# Altium footprint library footprints_library_legacy.pcblib: 29 footprints (part 1 of 2)
Each footprint in its own frame and in the unit in brackets; x right, y up, seen from the top. Pads: shape width x height; smd on the part's side, far side on the other; paste and mask are expansions set on the pad; w line width, h text height; cw(c..) or ccw(c..) is an arc to the next point about the centre after c.
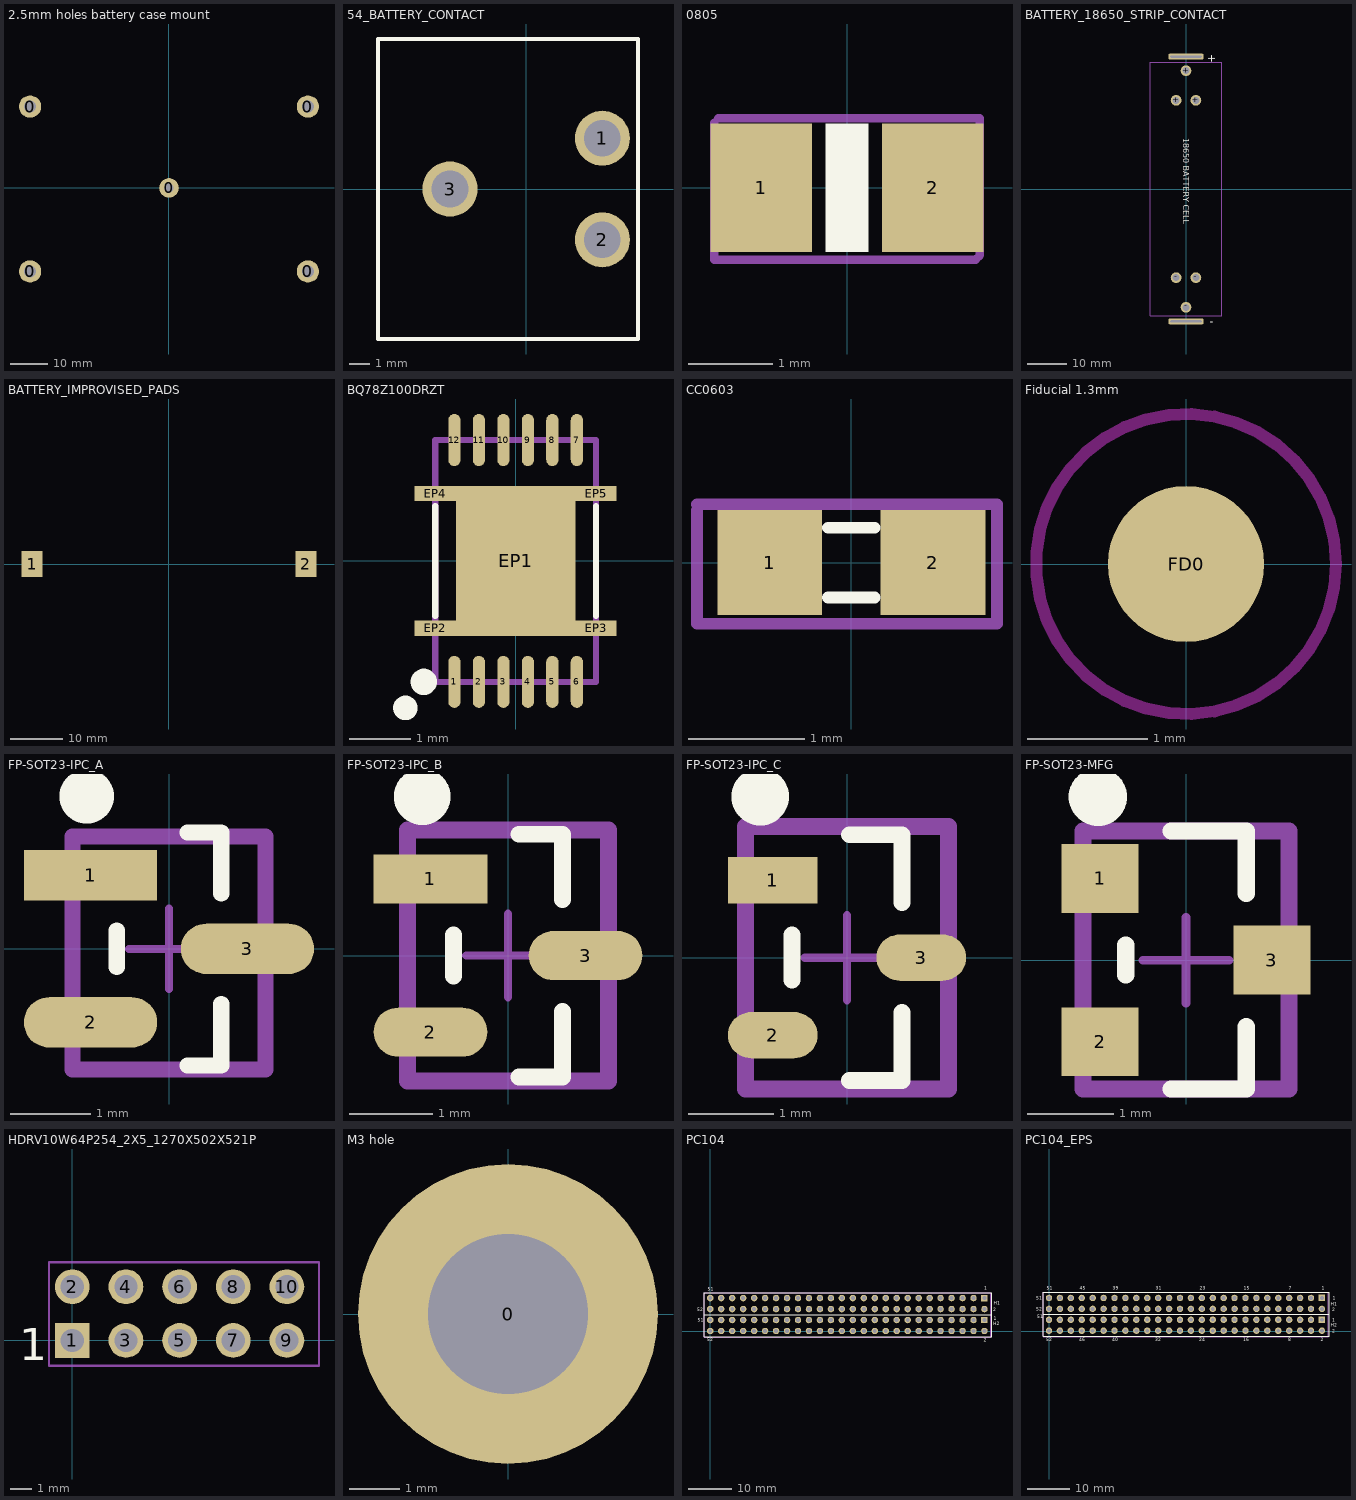
[diagram p0: the footprints below, top view; thin cyan lines are the x and y axes]

## 2.5mm holes battery case mount [mm]
pads (5):
  round 6 hole 3.2: 0(-37.5,-22.55) 0(-37.5,21.95) 0(37.5,-22.55) 0(37.5,21.95)
  round 5.3 hole 2.5: 0(0,0)

## 54_BATTERY_CONTACT [mm]
pads (3):
  round 2.75 hole 1.83: 1(3.81,2.54) 2(3.81,-2.54) 3(-3.81,0)
Top Overlay:
  lines w0.2: -7.41,-7.5 5.59,-7.5 5.59,7.5 -7.41,7.5 -7.41,-7.5
3D body "KEYELCO_54.STEP": height 2.55, standoff -18.66, extent -7.371,-9.384 5.636,9.503

## 0805 [mil]
pads (2):
  rect 47.24x60 smd: 1(-40,0) 2(40,0)
Top Overlay:
  rectangle: -10,-30 10,30
Top ASM Top/ASM Bottom:
  lines w3.94: -62.01,30.51 -62.01,-33.46 60.04,-33.46 62.01,-31.5 62.01,32.48 -60.04,32.48
  text ".Designator" at -58.7,-2.44 h19.68
3D body "RES0805(2012M).STEP": height 31.1, standoff 0, extent -50,-24.49 48.75,24.51

## BATTERY_18650_STRIP_CONTACT [mm]
pads (8):
  round 2.75 hole 1.83: +(-2.54,22.755) +(0,30.375) +(2.54,22.755) -(-2.54,-22.705) -(0,-30.325) -(2.54,-22.705)
  rrect50% 9x1.524 hole 0.5 slot 8 at 0 deg: +(0,34) -(0,-33.95)
Top Overlay:
  text "18650 BATTERY CELL" at -0.75,13 h1.5
  text "+" at 5.7,34.65 h2
  text "-" at 6.075,-34.95 h2
Top ASM Top/ASM Bottom:
  lines w0.254: -9.2,-32.45 9.2,-32.45 9.2,32.5 -9.2,32.5 -9.2,-32.45
  text "-" at 6.075,-34.95 h2
  text "+" at 5.7,34.65 h2
  text "'.Designator'" at 5.075,30.175 h2
3D body "KEYELCO_54.STEP": height 18.16, standoff -3.05, extent -9.383,20.929 9.504,33.936
3D body "Samsung INR18650-29R.SLDPRT": height 19.89, standoff 1.51, extent -9.19,-32.45 9.19,32.5
3D body "KEYELCO_54.STEP": height 18.16, standoff -3.05, extent -9.504,-33.886 9.383,-20.879

## BATTERY_IMPROVISED_PADS [mm] "Battery"
pads (2):
  rect 4x5 smd: 1(-26.32,0) 2(26.32,0)

## BQ78Z100DRZT [mm]
pads (17):
  oval 0.2x0.85 smd mask+0.07: 1(-1,-1.975) 2(-0.6,-1.975) 3(-0.2,-1.975) 4(0.2,-1.975) 5(0.6,-1.975) 6(1,-1.975) 7(1,1.975) 8(0.6,1.975) 9(0.2,1.975) 10(-0.2,1.975) 11(-0.6,1.975) 12(-1,1.975)
  rect 1.95x2.45 smd mask+0: EP1(0,0)
  rect 0.675x0.25 smd mask+0: EP2(-1.313,-1.1) EP3(1.313,-1.1) EP4(-1.313,1.1) EP5(1.313,1.1)
Top Overlay:
  circle w0.25: c-1.5,-1.975 r0.09
  lines w0.1: -1.313,-0.9 -1.313,0.9 ; 1.313,-0.9 1.313,0.9
  lines w0.2: -1.8,-2.5 ccw(c-1.8,-2.4) -1.8,-2.3 ccw(c-1.8,-2.4) -1.8,-2.5
Top ASM Top/ASM Bottom:
  lines w0.1: -1.313,-1.975 -1.313,1.975 1.313,1.975 1.313,-1.975 -1.313,-1.975
  text "'.Designator'" at 0.3,-1.4 h1
3D body "BQ78Z100DRZT.stp": height 1, standoff 0, extent -1.25,-2 1.25,2

## CC0603 [mm] "TDK mlccspec_commercial_general_midvoltage_en.pdf"
height 0.8
pads (2):
  rect 0.9x0.9 smd: 1(-0.7,0) 2(0.7,0)
Top Overlay:
  lines w0.1: -0.2,-0.3 0.2,-0.3 ; -0.2,0.3 0.2,0.3
Top ASM Top/ASM Bottom:
  lines w0.1: -1.325,0.45 -1.325,-0.525 1.25,-0.525 1.25,0.5 -1.325,0.5
  text ".Designator" at -1.075,-0.175 h0.89
3D body "CC0603(1608M).STEP": height 0.78, standoff -0.01, extent -1,-0.394 1,0.394

## Fiducial 1.3mm [mm]
pads (1):
  round 1.3 smd mask+0.6: FD0(0,0)
Top Layer keep-out:
  circle w0.1: c0,0 r1.25

## FP-SOT23-IPC_A [mm]
pads (3):
  rect 1.659x0.627 smd paste+0 mask+0: 1(-0.977,0.915)
  rrect100% 1.659x0.627 smd paste+0 mask+0: 2(-0.977,-0.915) 3(0.977,0)
Top Overlay:
  circle w0.5: c-1.025,1.9 r0.09
  lines w0.2: -0.65,-0.227 -0.65,0.227 ; 0.228,-1.45 0.65,-1.45 0.65,-0.688 ; 0.228,1.45 0.65,1.45 0.65,0.688
Top ASM Top/ASM Bottom:
  lines w0.2: -1.2,-1.5 -1.2,1.4 1.2,1.4 1.2,-1.5 -1.2,-1.5
  text ".Designator" at -1.941,0.588 h0.89
Mechanical 16:
  lines w0.1: -0.5,0 0.5,0 ; 0,-0.5 0,0.5
3D body "Diode_Diodes_Inc_BAS16-7-F_eec.STEP": height 1.1, standoff 0, extent -1.2,-1.46 1.2,1.46

## FP-SOT23-IPC_B [mm]
pads (3):
  rect 1.359x0.587 smd paste+0 mask+0: 1(-0.927,0.915)
  rrect100% 1.359x0.587 smd paste+0 mask+0: 2(-0.927,-0.915) 3(0.927,0)
Top Overlay:
  circle w0.5: c-1.025,1.9 r0.09
  lines w0.2: -0.65,-0.247 -0.65,0.247 ; 0.128,-1.45 0.65,-1.45 0.65,-0.668 ; 0.128,1.45 0.65,1.45 0.65,0.668
Top ASM Top/ASM Bottom:
  lines w0.2: -1.2,-1.5 1.2,-1.5 1.2,1.5 -1.2,1.5 -1.2,-1.5
  text ".Designator" at -1.5,0.4 h0.89
Mechanical 16:
  lines w0.1: -0.5,0 0.5,0 ; 0,-0.5 0,0.5
3D body "Diode_Diodes_Inc_BAS16-7-F_eec.STEP": height 1.1, standoff 0, extent -1.2,-1.46 1.2,1.46

## FP-SOT23-IPC_C [mm]
pads (3):
  rect 1.059x0.547 smd paste+0 mask+0: 1(-0.877,0.915)
  rrect100% 1.059x0.547 smd paste+0 mask+0: 2(-0.877,-0.915) 3(0.877,0)
Top Overlay:
  circle w0.5: c-1.025,1.9 r0.09
  lines w0.2: -0.65,-0.267 -0.65,0.267 ; 0.028,-1.45 0.65,-1.45 0.65,-0.648 ; 0.028,1.45 0.65,1.45 0.65,0.648
Top ASM Top/ASM Bottom:
  lines w0.2: -1.2,-1.55 -1.2,1.55 1.2,1.55 1.2,-1.55 -1.2,-1.55
  text ".Designator" at -1.141,0.388 h0.89
Mechanical 16:
  lines w0.1: -0.5,0 0.5,0 ; 0,-0.5 0,0.5
3D body "Diode_Diodes_Inc_BAS16-7-F_eec.STEP": height 1.1, standoff 0, extent -1.2,-1.46 1.2,1.46

## FP-SOT23-MFG [mm]
pads (3):
  rect 0.9x0.8 smd paste+0 mask+0: 1(-1,0.95) 2(-1,-0.95) 3(1,0)
Top Overlay:
  circle w0.5: c-1.025,1.9 r0.09
  lines w0.2: -0.7,-0.175 -0.7,0.175 ; -0.175,-1.5 0.7,-1.5 0.7,-0.775 ; -0.175,1.5 0.7,1.5 0.7,0.775
Top ASM Top/ASM Bottom:
  lines w0.2: -1.2,-1.5 1.2,-1.5 1.2,1.5 -1.2,1.5 -1.2,-1.5
  text ".Designator" at -1.041,0.388 h0.89
Mechanical 16:
  lines w0.1: -0.5,0 0.5,0 ; 0,-0.5 0,0.5
3D body "Diode_Diodes_Inc_BAS16-7-F_eec.STEP": height 1.1, standoff 0, extent -1.2,-1.46 1.2,1.46

## HDRV10W64P254_2X5_1270X502X521P [mm]
pads (10):
  rect 1.65x1.65 hole 1.1: 1(0,0)
  round 1.65 hole 1.1: 2(0,2.54) 3(2.54,0) 4(2.54,2.54) 5(5.08,0) 6(5.08,2.54) 7(7.62,0) 8(7.62,2.54) 9(10.16,0) 10(10.16,2.54)
Top Overlay:
  text "1" at -2.525,-0.95 h1.52
Top ASM Top/ASM Bottom:
  lines w0.1: -1.1,-1.2 11.68,-1.2 11.68,3.7 -1.1,3.7 -1.1,-1.2
  text ".Designator" at 1.359,-0.512 h0.89
3D body "67996-x10_asm.stp": height 8.28, standoff -2.51, extent -1.1,-1.165 11.6,3.665

## M3 hole [mm]
pads (1):
  round 6 hole 3.2: 0(0,0)

## PC104 [mm] "Connector; Header; 26x4 Position"
height 3.1
pads (104):
  rect 1.5x1.5 hole 0.9: H1-1(63.5,7.7) H2-1(63.5,2.625)
  round 1.5 hole 0.9: H1-2(63.5,5.16) H1-3(60.96,7.7) H1-4(60.96,5.16) H1-5(58.42,7.7) H1-6(58.42,5.16) H1-7(55.88,7.7) H1-8(55.88,5.16) H1-9(53.34,7.7) H1-10(53.34,5.16) H1-11(50.8,7.7) H1-12(50.8,5.16) H1-13(48.26,7.7) H1-14(48.26,5.16) H1-15(45.72,7.7) H1-16(45.72,5.16) H1-17(43.155,7.7) H1-18(43.18,5.16) H1-19(40.64,7.7) H1-20(40.64,5.16) H1-21(38.1,7.7) H1-22(38.1,5.16) H1-23(35.56,7.7) H1-24(35.56,5.16) H1-25(33.02,7.7) H1-26(33.02,5.16) H1-27(30.48,7.7) H1-28(30.48,5.16) H1-29(27.94,7.7) H1-30(27.94,5.16) H1-31(25.4,7.7) H1-32(25.4,5.16) H1-33(22.86,7.7) H1-34(22.86,5.16) H1-35(20.32,7.7) H1-36(20.32,5.16) H1-37(17.78,7.7) H1-38(17.78,5.16) H1-39(15.24,7.7) H1-40(15.24,5.16) H1-41(12.7,7.7) H1-42(12.7,5.16) H1-43(10.16,7.7) H1-44(10.16,5.16) H1-45(7.62,7.7) H1-46(7.62,5.16) H1-47(5.08,7.7) H1-48(5.08,5.16) H1-49(2.54,7.7) H1-50(2.54,5.16) H1-51(0,7.7) H1-52(0,5.16) H2-2(63.5,0.08) H2-3(60.96,2.62) H2-4(60.96,0.08) H2-5(58.42,2.62) H2-6(58.42,0.08) H2-7(55.88,2.62) H2-8(55.88,0.08) H2-9(53.34,2.625) H2-10(53.34,0.08) H2-11(50.8,2.625) H2-12(50.8,0.08) H2-13(48.26,2.62) H2-14(48.26,0.08) H2-15(45.72,2.62) H2-16(45.72,0.08) H2-17(43.155,2.62) H2-18(43.18,0.08) H2-19(40.64,2.62) H2-20(40.64,0.08) H2-21(38.1,2.62) H2-22(38.1,0.08) H2-23(35.56,2.62) H2-24(35.56,0.08) H2-25(33.02,2.62) H2-26(33.02,0.08) H2-27(30.48,2.62) H2-28(30.48,0.08) H2-29(27.94,2.62) H2-30(27.94,0.08) H2-31(25.4,2.62) H2-32(25.4,0.08) H2-33(22.86,2.62) H2-34(22.86,0.08) H2-35(20.32,2.62) H2-36(20.32,0.08) H2-37(17.78,2.62) H2-38(17.78,0.08) H2-39(15.24,2.62) H2-40(15.24,0.08) H2-41(12.7,2.62) H2-42(12.7,0.08) H2-43(10.16,2.62) H2-44(10.16,0.08) H2-45(7.62,2.62) H2-46(7.62,0.08) H2-47(5.08,2.62) H2-48(5.08,0.08) H2-49(2.54,2.62) H2-50(2.54,0.08) H2-51(0,2.62) H2-52(0,0.08)
Top Overlay:
  lines w0.2: -1.375,-1.225 -1.375,3.895 65.175,3.895 65.175,-1.225 -1.375,-1.225 ; -1.375,3.89 65.175,3.89 65.175,8.97 -1.375,8.97 -1.375,3.89
  text "H1" at 65.59,6.18 h0.75
  text "H2" at 65.53,1.41 h0.75
  text "52" at -3.07,4.6 h0.75
  text "51" at -0.62,9.36 h0.75
  text "51" at -2.88,2.25 h0.75
  text "52" at -0.74,-2.34 h0.75
  text "1" at 63.47,9.66 h0.75
  text "2" at 65.56,4.61 h0.75
  text "2" at 63.28,-2.38 h0.75
  text "1" at 65.65,2.6 h0.75
Top ASM Top/ASM Bottom:
  lines w0.1: -1.375,-1.325 64.975,-1.325 64.975,8.975 -1.375,8.975 -1.375,-1.325
  text "PC104" at 48.95,4.83 h1
3D body "SSW-126-04-G-D.stp": height 8.51, standoff -14.83, extent -1.45,3.898 65.098,8.851
3D body "SSW-126-04-G-D.stp": height 8.51, standoff -14.83, extent -1.474,-1.001 65.074,3.952

## PC104_EPS [mm] "Connector; Header; 26x4 Position"
height 3.1
pads (104):
  rect 1.5x1.5 hole 0.9: H1-1(63.5,7.7) H2-1(63.5,2.625)
  round 1.5 hole 0.9: H1-2(63.5,5.16) H1-3(60.96,7.7) H1-4(60.96,5.16) H1-5(58.42,7.7) H1-6(58.42,5.16) H1-7(55.88,7.7) H1-8(55.88,5.16) H1-9(53.34,7.7) H1-10(53.34,5.16) H1-11(50.8,7.7) H1-12(50.8,5.16) H1-13(48.26,7.7) H1-14(48.26,5.16) H1-15(45.72,7.7) H1-16(45.72,5.16) H1-17(43.155,7.7) H1-18(43.18,5.16) H1-19(40.64,7.7) H1-20(40.64,5.16) H1-21(38.1,7.7) H1-22(38.1,5.16) H1-23(35.56,7.7) H1-24(35.56,5.16) H1-25(33.02,7.7) H1-26(33.02,5.16) H1-27(30.48,7.7) H1-28(30.48,5.16) H1-29(27.94,7.7) H1-30(27.94,5.16) H1-31(25.4,7.7) H1-32(25.4,5.16) H1-33(22.86,7.7) H1-34(22.86,5.16) H1-35(20.32,7.7) H1-36(20.32,5.16) H1-37(17.78,7.7) H1-38(17.78,5.16) H1-39(15.24,7.7) H1-40(15.24,5.16) H1-41(12.7,7.7) H1-42(12.7,5.16) H1-43(10.16,7.7) H1-44(10.16,5.16) H1-45(7.62,7.7) H1-46(7.62,5.16) H1-47(5.08,7.7) H1-48(5.08,5.16) H1-49(2.54,7.7) H1-50(2.54,5.16) H1-51(0,7.7) H1-52(0,5.16) H2-2(63.5,0.08) H2-3(60.96,2.62) H2-4(60.96,0.08) H2-5(58.42,2.62) H2-6(58.42,0.08) H2-7(55.88,2.62) H2-8(55.88,0.08) H2-9(53.34,2.625) H2-10(53.34,0.08) H2-11(50.8,2.625) H2-12(50.8,0.08) H2-13(48.26,2.62) H2-14(48.26,0.08) H2-15(45.72,2.62) H2-16(45.72,0.08) H2-17(43.155,2.62) H2-18(43.18,0.08) H2-19(40.64,2.62) H2-20(40.64,0.08) H2-21(38.1,2.62) H2-22(38.1,0.08) H2-23(35.56,2.62) H2-24(35.56,0.08) H2-25(33.02,2.62) H2-26(33.02,0.08) H2-27(30.48,2.62) H2-28(30.48,0.08) H2-29(27.94,2.62) H2-30(27.94,0.08) H2-31(25.4,2.62) H2-32(25.4,0.08) H2-33(22.86,2.62) H2-34(22.86,0.08) H2-35(20.32,2.62) H2-36(20.32,0.08) H2-37(17.78,2.62) H2-38(17.78,0.08) H2-39(15.24,2.62) H2-40(15.24,0.08) H2-41(12.7,2.62) H2-42(12.7,0.08) H2-43(10.16,2.62) H2-44(10.16,0.08) H2-45(7.62,2.62) H2-46(7.62,0.08) H2-47(5.08,2.62) H2-48(5.08,0.08) H2-49(2.54,2.62) H2-50(2.54,0.08) H2-51(0,2.62) H2-52(0,0.08)
Top Overlay:
  lines w0.2: -1.375,-1.225 -1.375,3.895 65.175,3.895 65.175,-1.225 -1.375,-1.225 ; -1.375,3.89 65.175,3.89 65.175,8.97 -1.375,8.97 -1.375,3.89
  text "H1" at 65.6,5.85 h0.75
  text "H2" at 65.6,0.975 h0.75
  text "52" at -2.996,4.686 h0.75
  text "51" at -3.025,7.3 h0.75
  text "51" at -2.786,2.926 h0.75
  text "1" at 66.025,7.225 h0.75
  text "2" at 65.875,4.625 h0.75
  text "2" at 65.875,-0.4 h0.75
  text "1" at 65.9,2.175 h0.75
  text "46" at 6.985,-2.396 h0.75
  text "40" at 14.732,-2.396 h0.75
  text "16" at 45.212,-2.396 h0.75
  text "52" at -0.635,-2.396 h0.75
  text "51" at -0.508,9.58 h0.75
  text "7" at 55.753,9.58 h0.75
  text "15" at 45.339,9.58 h0.75
  text "23" at 35.052,9.58 h0.75
  text "31" at 24.892,9.58 h0.75
  text "39" at 14.859,9.58 h0.75
  text "45" at 7.112,9.58 h0.75
  text "1" at 63.5,9.58 h0.75
  text "2" at 63.203,-2.326 h0.75
  text "8" at 55.626,-2.396 h0.75
  text "24" at 34.925,-2.396 h0.75
  text "32" at 24.765,-2.396 h0.75
Top ASM Top/ASM Bottom:
  lines w0.1: -1.375,-1.325 64.975,-1.325 64.975,8.975 -1.375,8.975 -1.375,-1.325
  text ".Designator" at 48.075,6.075 h0.89
3D body "SSW-126-01-G-D.stp": height 8.52, standoff -2.63, extent -1.524,4 65.024,8.953
3D body "SSW-126-01-G-D.stp": height 8.52, standoff -2.63, extent -1.524,-1.207 65.024,3.747